# EAGLE library part 8P8C (library con-rj45)
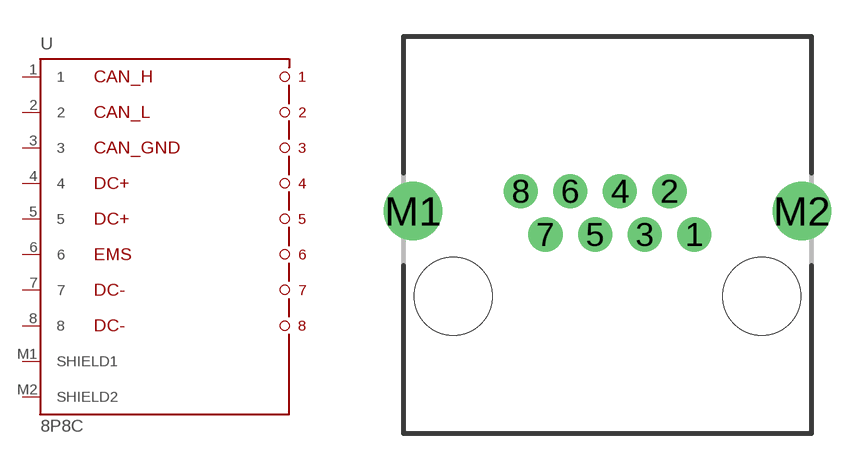
[diagram p1: symbol with the pads of 8P8C; footprint 8P8C]

Designator prefix -

## 8P8C  [8P8C]
1  1  in
2  2  in
3  3  in
4  4  in
5  5  in
6  6  in
7  7  in
8  8  in
M1  SHIELD1  pas
M2  SHIELD2  pas

## Footprint 8P8C (pad centres in mm)
drill 0.9 pad 1.3: 1 3.57,-3.81; 2 2.55,-2.03; 3 1.53,-3.81; 4 0.51,-2.03; 5 -0.51,-3.81; 6 -1.53,-2.03; 7 -2.55,-3.81; 8 -3.57,-2.03
drill 1.6 pad 2.184: M1 -8,-2.85; M2 8,-2.85
hole 3.2 at 6.35,-6.35
hole 3.2 at -6.35,-6.35